# Altium schematic symbol library Transistors.SchLib: 19 symbols
Pins are listed as number, name and electrical type; pins without a type are passive.

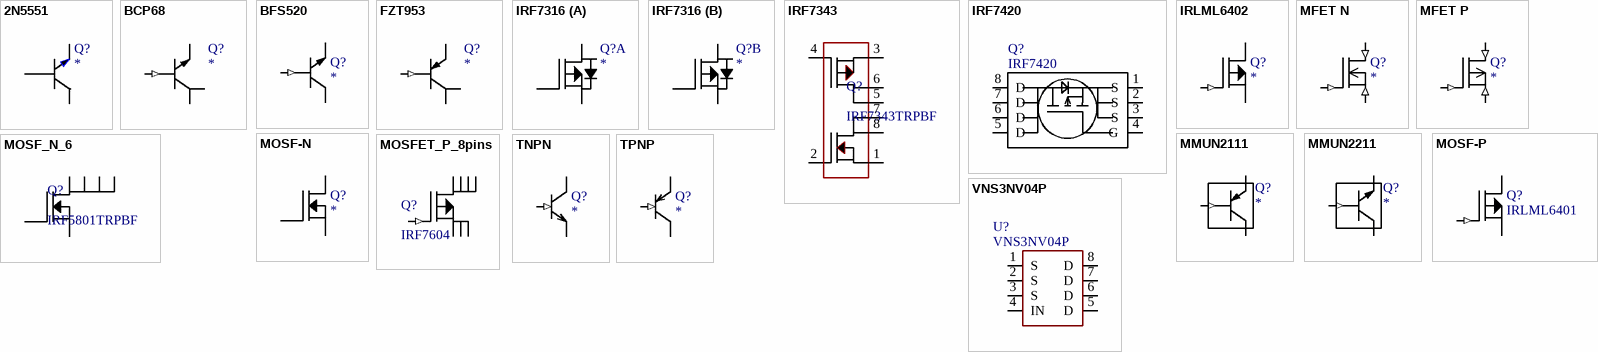
[diagram p0: symbols 2N5551 to VNS3NV04P]

## 2N5551
designator Q?
Вид: Транзистор; Виробник: *
footprint SOT-23
footprint DPAK3
pins: 1 BASE, 2 EMITTER, 3 COLLECTOR, 4

## BCP68
designator Q?
Вид: Транзистор
footprint SOT223 (SOT223, 4-Leads, Body 6,50x7,00mm (avg), Pitch 2,30mm, IPC Medium Density)
pins: 1 BASE (in), 2 COLLECTOR, 3 EMITTER, 4

## BFS520
designator Q?
Вид: Транзистор
footprint SOT-23
pins: 1 BASE (in), 2 EMITTER, 3 COLLECTOR

## FZT953
designator Q?
Вид: Транзистор
footprint SOT223 (SOT223, 4-Leads, Body 6,50x7,00mm (avg), Pitch 2,30mm, IPC Medium Density)
pins: 1 BASE (in), 2 COLLECTOR, 3 EMITTER, 4

## IRF7316
designator Q?
Dual P-Channel  Mosfet Logic Level; Вид: Транзистор
footprint SO-8 (SOIC, 8-Leads, Body 4,90x3,90mm, Pitch 1,27mm, IPC Medium Density)
part A pins: 1 SOURCE 1, 2 GATE 1, 7 DRAIN1, 8 DRAIN 1
part B pins: 3 SOURCE 2, 4 GATE 2, 5 DRAIN2, 6 DRAIN 2

## IRF7343
designator Q?, comment IRF7343TRPBF
Вид: Транзистор
footprint SO-8 (SOIC, 8-Leads, Body 4,90x3,90mm, Pitch 1,27mm, IPC Medium Density)
pins: 1 SN, 2 GN, 3 SP, 4 GP, 5 DP, 6 DP, 7 DN, 8 DN

## IRF7420
designator Q?
P-Channel HEXFET Power MOSFETs, Vdss=-12V, Id=-9.2A@Ta=70°C, Rds(on)max=26mOm@Vgs=-1.8V, Vgs(th)max=-0.9V, SO-8; Вид: Транзистор
footprint SO-8 (SOIC, 8-Leads, Body 4,90x3,90mm, Pitch 1,27mm, IPC Medium Density)
pins: 1 S, 2 S, 3 S, 4 G, 5 D, 6 D, 7 D, 8 D

## IRLML6402
designator Q?
Вид: Транзистор
footprint SOT-23
pins: 1 GATE (in), 2 DRAIN, 3 SOURCE

## MFET N
designator Q?
Вид: Транзистор
footprint SOT-23
pins: 1 G (in), 2 S (in), 3 D (in)

## MFET P
designator Q?
Вид: Транзистор
footprint SOT-23
pins: 1 G (in), 2 S (in), 3 D (in)

## MMUN2111
designator Q?
Вид: Транзистор
footprint SOT-23
pins: 1 BASE (in), 2 EMITTER, 3 COLLECTOR

## MMUN2211
designator Q?
Вид: Транзистор
footprint SOT-23
pins: 1 BASE (in), 2 EMITTER, 3 COLLECTOR

## MOSF-N
designator Q?
Вид: Транзистор
footprint SOT-23
pins: 1 GATE, 2 SOURCE, 3 DRAIN

## MOSF-P
designator Q?, comment IRLML6401
Вид: Транзистор
footprint SOT-23
pins: 1 GATE (in), 2 SOURCE, 3 DRAIN

## MOSF_N_6
designator Q?, comment IRF5801TRPBF
footprint SOT-23-6 (SOT23, 6-Leads, Body 2,90x2,45mm, Pitch 0,95mm, IPC Medium Density)
pins: 1 DRAIN, 2 DRAIN, 3 GATE, 4 S, 5 DRAIN, 6 DRAIN

## MOSFET_P_8pins
designator Q?, comment IRF7604
Вид: Транзистор
footprint SSOP-8 (Small Outline Pkg (SOP), 0.65 mm pitch; 8 pin, 3.00 mm L X 3.00 mm W X 1.10 mm H body)
footprint SO-8 (SOIC, 8-Leads, Body 4,90x3,90mm, Pitch 1,27mm, IPC Medium Density)
pins: 1 SOURCE, 2 SOURCE, 3 SOURCE, 4 GATE (in), 5 DRAIN, 6 DRAIN, 7 DRAIN, 8 DRAIN

## TNPN
designator Q?
Вид: Транзистор
footprint SOT-23
pins: 1 B (in), 2 E, 3 C

## TPNP
designator Q?
Вид: Транзистор
footprint SOT23 (SOT23, 3-Leads, Body 2,90x2,45mm, Pitch 0,95mm, IPC Medium Density)
pins: 1 B (in), 2 E, 3 C

## VNS3NV04P
designator U?
OMNIFET II fully autoprotected Power MOSFET, Vdss=40V, Id=3.5A, Rds(on)max=240mOm@Vgs=3V, Vgs(th)max=2.5V, SO-8; Вид: Транзистор
footprint SO8-(SOT-96-1)
footprint SO-8 (SOIC, 8-Leads, Body 4,90x3,90mm, Pitch 1,27mm, IPC Medium Density)
pins: 1 S, 2 S, 3 S, 4 IN, 5 D, 6 D, 7 D, 8 D